# EAGLE library part LT5537 (library Neel)
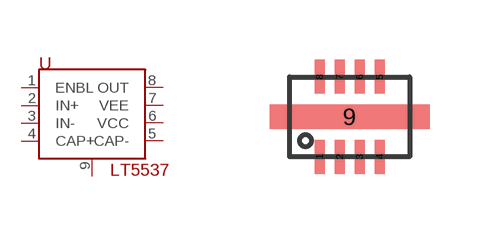
[diagram p36: symbol with the pads of DFN8-3X2; footprint DFN8-3X2]

Designator prefix -

## LT5537  [DFN8-3X2]
1  ENBL
2  IN+
3  IN-
4  CAP+
5  CAP-
6  VCC
7  VEE
8  OUT
9  GND

## Footprint DFN8-3X2 (pad centres in mm)
smd 0.25 x 0.85: 1 -0.75,-1; 2 -0.25,-1; 3 0.25,-1; 4 0.75,-1; 5 0.75,1; 6 0.25,1; 7 -0.25,1; 8 -0.75,1
smd 4 x 0.61: 9 0,0